# Altium footprint library B6B-XH-A_LF__SN_.PcbLib: 1 footprints
Each footprint in its own frame and in the unit in brackets; x right, y up, seen from the top. Pads: shape width x height; smd on the part's side, far side on the other; paste and mask are expansions set on the pad; w line width, h text height; cw(c..) or ccw(c..) is an arc to the next point about the centre after c.
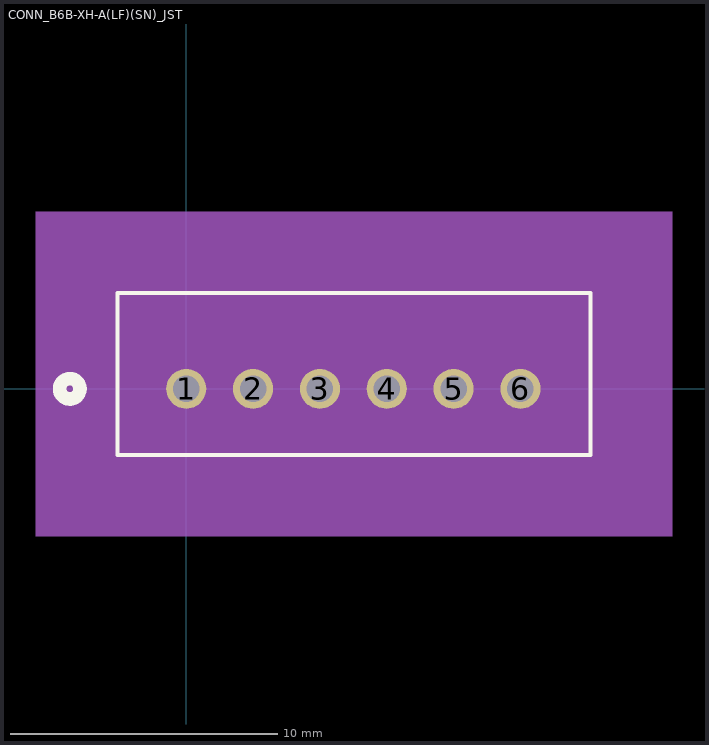
[diagram p0: the footprint, top view; thin cyan lines are the x and y axes]

## CONN_B6B-XH-A(LF)(SN)_JST [mil]
pads (6):
  round 59 hole 39 mask+0: 1(0,0) 2(98.43,0) 3(196.85,0) 4(295.28,0) 5(393.7,0) 6(492.13,0)
Top Overlay:
  circle w20: c-171.45,0 r15
  lines w6: -101.45,-97.17 595.55,-97.17 595.55,140.83 -101.45,140.83 -101.45,-97.17
Bottom Overlay:
  circle w20: c-171.45,0 r15
Mechanical 5:
  region: -221.45,260.83 715.55,260.83 715.55,-217.17 -221.45,-217.17
Mechanical 13:
  circle w20: c0,-75 r15
  lines w1: -96.45,-92.17 590.55,-92.17 590.55,135.83 -96.45,135.83 -96.45,-92.17
Mechanical 15:
  region: 600.55,145.83 -106.45,145.83 -106.45,-102.17 600.55,-102.17
  lines w6: -106.45,-102.17 -106.45,145.83 600.55,145.83 600.55,-102.17 -106.45,-102.17
3D body: height 10, standoff 0, extent 0,0 10,10